# Altium footprint library B6B-XH-A.PcbLib: 1 footprints
Each footprint in its own frame and in the unit in brackets; x right, y up, seen from the top. Pads: shape width x height; smd on the part's side, far side on the other; paste and mask are expansions set on the pad; w line width, h text height; cw(c..) or ccw(c..) is an arc to the next point about the centre after c.
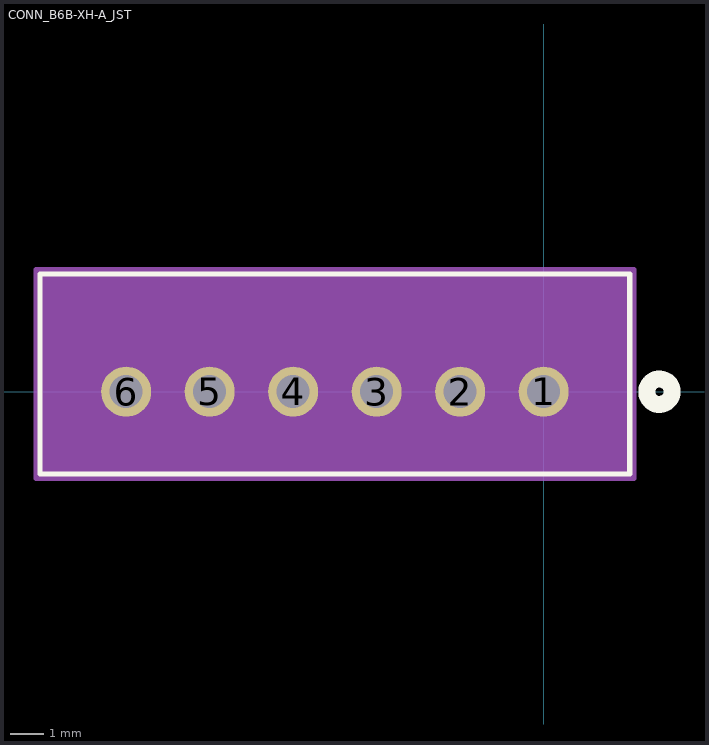
[diagram p0: the footprint, top view; thin cyan lines are the x and y axes]

## CONN_B6B-XH-A_JST [mil]
pads (6):
  round 59 hole 39 paste-29.5 mask+0: 1(0,0) 2(-98.43,0) 3(-196.85,0) 4(-295.28,0) 5(-393.7,0) 6(-492.13,0)
Top Overlay:
  circle w20: c136.44,0 r15
  lines w6: -593.56,-97.14 101.44,-97.14 101.44,138.86 -593.56,138.86 -593.56,-97.14
  text ".Designator" at -383.56,-25 h50
Bottom Overlay:
  circle w20: c136.44,0 r15
Mechanical 13:
  circle w20: c0,0 r15
  lines w1: -588.56,-92.14 96.44,-92.14 96.44,133.86 -588.56,133.86 -588.56,-92.14
  text ".Designator" at -383.56,-25 h50
Mechanical 15:
  region: 106.44,143.86 -598.56,143.86 -598.56,-102.14 106.44,-102.14
  lines w6: -598.56,-102.14 -598.56,143.86 106.44,143.86 106.44,-102.14 -598.56,-102.14